# Altium footprint library PcbLib1.PcbLib: 16 footprints
Each footprint in its own frame and in the unit in brackets; x right, y up, seen from the top. Pads: shape width x height; smd on the part's side, far side on the other; paste and mask are expansions set on the pad; w line width, h text height; cw(c..) or ccw(c..) is an arc to the next point about the centre after c.
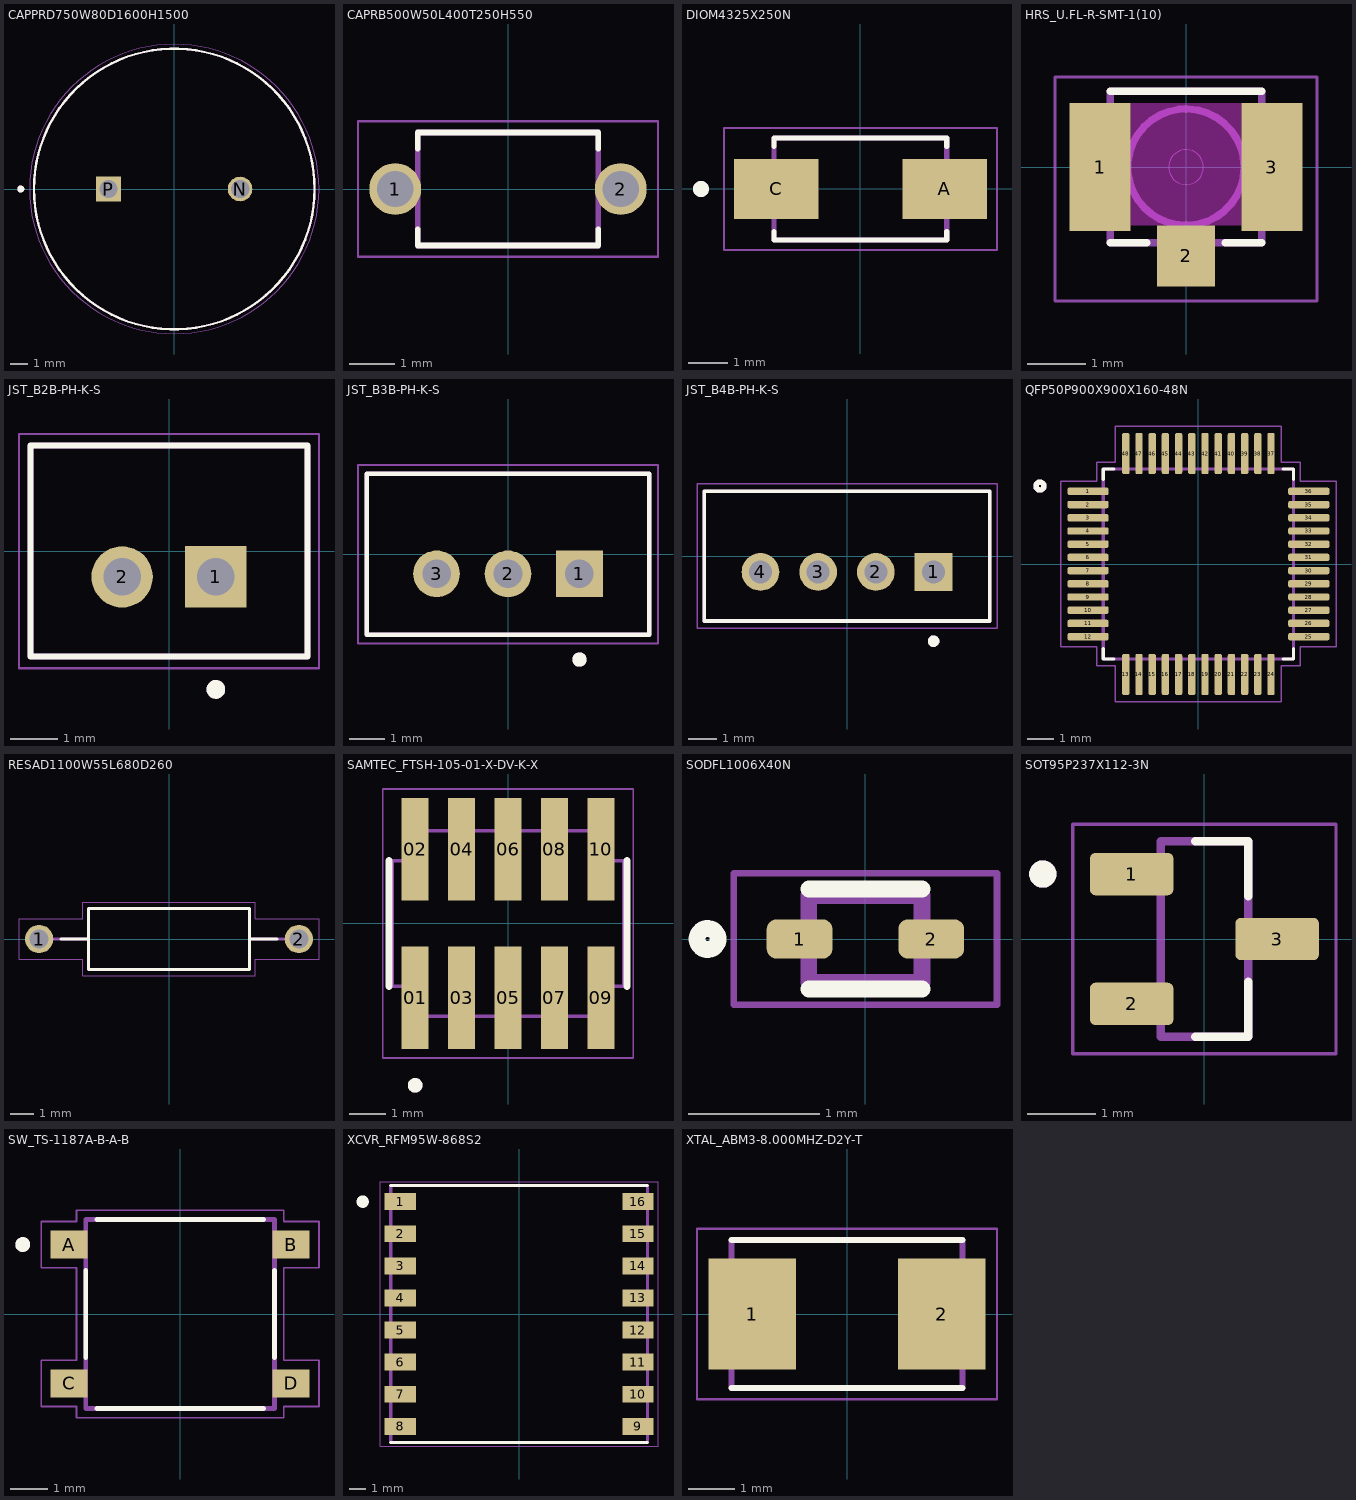
[diagram p0: the footprints below, top view; thin cyan lines are the x and y axes]

## CAPPRD750W80D1600H1500 [mm]
pads (2):
  round 1.4 hole 1.05: N(3.75,0)
  rect 1.4x1.4 hole 1.05: P(-3.75,0)
Top Overlay:
  circle w0.127: c0,0 r8
  circle w0.2: c-8.75,0 r0.1
Mechanical 13:
  circle w0.127: c0,0 r8
  circle w0.2: c-8.75,0 r0.1
Mechanical 15:
  circle w0.05: c0,0 r8.25
3D body "step_temp.STEP": height 15, standoff -17, extent -8,-7.997 8,7.997

## CAPRB500W50L400T250H550 [mm]
pads (2):
  round 1.15 hole 0.8 mask+0.102: 1(-2.5,0) 2(2.5,0)
Top Overlay:
  lines w0.127: -2,-0.895 -2,-1.25 2,-1.25 2,-0.895 ; -2,0.895 -2,1.25 2,1.25 2,0.895
Mechanical 13:
  lines w0.127: -2,-1.25 -2,1.25 2,1.25 2,-1.25 -2,-1.25
Mechanical 15:
  lines w0.05: -3.325,-1.5 -3.325,1.5 3.325,1.5 3.325,-1.5 -3.325,-1.5
3D body "step_temp.STEP": height 5.5, standoff -9, extent -2.75,-1.25 2.75,1.25

## DIOM4325X250N [mm]
height 2.5
pads (2):
  rect 2.12x1.5 smd paste+0 mask+0.102: A(2.115,0) C(-2.115,0)
Top Overlay:
  circle w0.2: c-4,0 r0.1
  lines w0.127: -2.165,-1.07 -2.165,-1.28 2.165,-1.28 2.165,-1.07 ; -2.165,1.07 -2.165,1.28 2.165,1.28 2.165,1.07
Mechanical 13:
  circle w0.2: c-4,0 r0.1
  lines w0.127: -2.165,-1.28 2.165,-1.28 2.165,1.28 -2.165,1.28 -2.165,-1.28
Mechanical 15:
  lines w0.05: -3.425,-1.53 3.425,-1.53 3.425,1.53 -3.425,1.53 -3.425,-1.53
3D body "step_temp.STEP": height 2.45, standoff -0.25, extent -0.275,-2.37 4.775,-0.2

## HRS_U.FL-R-SMT-1(10) [mm]
pads (3):
  rect 1.05x2.2 smd: 1(-1.475,0) 3(1.475,0)
  rect 1x1.05 smd: 2(0,-1.525)
Top Overlay:
  lines w0.127: -1.3,-1.3 -0.67,-1.3 ; -1.3,1.3 1.3,1.3 ; 0.67,-1.3 1.3,-1.3
Keep-Out Layer:
  region: 0.95,-1 -0.95,-1 -0.95,1.1 0.95,1.1
Mechanical 13:
  circle w0.127: c0,0 r1
  circle w0: c0,0 r0.3
  lines w0.127: -1.3,-1.3 1.3,-1.3 1.3,1.3 -1.3,1.3 -1.3,-1.3
Mechanical 15:
  lines w0.05: -2.25,-2.3 2.25,-2.3 2.25,1.55 -2.25,1.55 -2.25,-2.3

## JST_B2B-PH-K-S [mm]
pads (2):
  rect 1.308x1.308 / inner round 1.308 / far side rect 1.308x1.308 hole 0.8: 1(1,-0.55)
  round 1.308 hole 0.8: 2(-1,-0.55)
Top Overlay:
  circle w0.2: c1,-2.95 r0.1
  lines w0.127: -2.95,-2.25 2.95,-2.25 2.95,2.25 -2.95,2.25 -2.95,-2.25
Mechanical 13:
  circle w0.2: c1,-2.95 r0.1
  lines w0.127: -2.95,-2.25 -2.95,2.25 2.95,2.25 2.95,-2.25 -2.95,-2.25
Mechanical 15:
  lines w0.05: -3.2,-2.5 -3.2,2.5 3.2,2.5 3.2,-2.5 -3.2,-2.5
3D body "step_temp.STEP": height 6, standoff -3.4, extent -2.95,-2.25 2.95,2.25

## JST_B3B-PH-K-S [mm]
pads (3):
  rect 1.308x1.308 / inner round 1.308 / far side rect 1.308x1.308 hole 0.8: 1(2,-0.55)
  round 1.308 hole 0.8: 2(0,-0.55) 3(-2,-0.55)
Top Overlay:
  circle w0.2: c2,-2.95 r0.1
  lines w0.127: -3.95,-2.25 -3.95,2.25 3.95,2.25 3.95,-2.25 -3.95,-2.25
Mechanical 13:
  circle w0.2: c2,-2.95 r0.1
  lines w0.127: -3.95,-2.25 3.95,-2.25 3.95,2.25 -3.95,2.25 -3.95,-2.25
Mechanical 15:
  lines w0.05: -4.2,-2.5 4.2,-2.5 4.2,2.5 -4.2,2.5 -4.2,-2.5

## JST_B4B-PH-K-S [mm]
pads (4):
  rect 1.308x1.308 / inner round 1.308 / far side rect 1.308x1.308 hole 0.8: 1(3,-0.55)
  round 1.308 hole 0.8: 2(1,-0.55) 3(-1,-0.55) 4(-3,-0.55)
Top Overlay:
  circle w0.2: c3,-2.95 r0.1
  lines w0.127: -4.95,-2.25 4.95,-2.25 4.95,2.25 -4.95,2.25 -4.95,-2.25
Mechanical 13:
  circle w0.2: c3,-2.95 r0.1
  lines w0.127: -4.95,-2.25 -4.95,2.25 4.95,2.25 4.95,-2.25 -4.95,-2.25
Mechanical 15:
  lines w0.05: -5.2,-2.5 -5.2,2.5 5.2,2.5 5.2,-2.5 -5.2,-2.5

## PCBComponent_1 [mm]

## QFP50P900X900X160-48N [mm]
pads (48):
  rrect50% 1.56x0.28 smd: 1(-4.18,2.75) 2(-4.18,2.25) 3(-4.18,1.75) 4(-4.18,1.25) 5(-4.18,0.75) 6(-4.18,0.25) 7(-4.18,-0.25) 8(-4.18,-0.75) 9(-4.18,-1.25) 10(-4.18,-1.75) 11(-4.18,-2.25) 12(-4.18,-2.75) 25(4.18,-2.75) 26(4.18,-2.25) 27(4.18,-1.75) 28(4.18,-1.25) 29(4.18,-0.75) 30(4.18,-0.25) 31(4.18,0.25) 32(4.18,0.75) 33(4.18,1.25) 34(4.18,1.75) 35(4.18,2.25) 36(4.18,2.75)
  rrect50% 0.28x1.56 smd: 13(-2.75,-4.18) 14(-2.25,-4.18) 15(-1.75,-4.18) 16(-1.25,-4.18) 17(-0.75,-4.18) 18(-0.25,-4.18) 19(0.25,-4.18) 20(0.75,-4.18) 21(1.25,-4.18) 22(1.75,-4.18) 23(2.25,-4.18) 24(2.75,-4.18) 37(2.75,4.18) 38(2.25,4.18) 39(1.75,4.18) 40(1.25,4.18) 41(0.75,4.18) 42(0.25,4.18) 43(-0.25,4.18) 44(-0.75,4.18) 45(-1.25,4.18) 46(-1.75,4.18) 47(-2.25,4.18) 48(-2.75,4.18)
Top Overlay:
  circle w0.2: c-6,2.95 r0.15
  lines w0.127: -3.6,-3.21 -3.6,-3.6 -3.21,-3.6 ; -3.6,3.21 -3.6,3.6 -3.21,3.6 ; 3.21,-3.6 3.6,-3.6 3.6,-3.21 ; 3.21,3.6 3.6,3.6 3.6,3.21
Mechanical 13:
  circle w0.2: c-6,2.95 r0.15
  lines w0.127: -3.6,-3.6 3.6,-3.6 3.6,3.6 -3.6,3.6 -3.6,-3.6
Mechanical 15:
  lines w0.05: -5.21,-3.14 -3.85,-3.14 -3.85,-3.85 -3.14,-3.85 -3.14,-5.21 3.14,-5.21 3.14,-3.85 3.85,-3.85 3.85,-3.14 5.21,-3.14 5.21,3.14 3.85,3.14 3.85,3.85 3.14,3.85 3.14,5.21 -3.14,5.21 -3.14,3.85 -3.85,3.85 -3.85,3.14 -5.21,3.14 -5.21,-3.14
3D body "step_temp.STEP": height 1.6, standoff 0, extent -4.5,-4.5 4.5,4.5

## RESAD1100W55L680D260 [mm]
height 2.6
pads (2):
  round 1.2 hole 0.8: 1(-5.5,0) 2(5.5,0)
Top Overlay:
  lines w0.127: -4.58,0 -3.4,0 ; 4.58,0 3.4,0 ; -3.4,0 -3.4,-1.3 3.4,-1.3 3.4,0 ; -3.4,0 -3.4,1.3 3.4,1.3 3.4,0
Mechanical 13:
  lines w0.127: -4.9,0 -3.4,0 ; 4.9,0 3.4,0 ; -3.4,0 -3.4,-1.3 3.4,-1.3 3.4,0 ; -3.4,0 -3.4,1.3 3.4,1.3 3.4,0
Mechanical 15:
  lines w0.05: -6.35,-0.85 -6.35,0.85 -3.65,0.85 -3.65,1.55 3.65,1.55 3.65,0.85 6.35,0.85 6.35,-0.85 3.65,-0.85 3.65,-1.55 -3.65,-1.55 -3.65,-0.85 -6.35,-0.85
3D body "step_temp.STEP": height 2.4, standoff -26.95, extent -5.775,-1.2 5.775,1.2

## SAMTEC_FTSH-105-01-X-DV-K-X [mil]
pads (10):
  rect 29x110 smd paste+0 mask+4.02: 01(-100,-80) 02(-100,80) 03(-50,-80) 04(-50,80) 05(0,-80) 06(0,80) 07(50,-80) 08(50,80) 09(100,-80) 10(100,80)
Top Overlay:
  circle w7.87: c-100,-174.37 r3.94
  lines w7.87: -128.15,-67.5 -128.15,67.5 ; 128.15,-67.5 128.15,67.5
Mechanical 13:
  circle w7.87: c-100,-174.37 r3.94
  lines w3.94: -125,-67.5 -100,-67.5 -100,-100 100,-100 100,-67.5 125,-67.5 125,67.5 100,67.5 100,100 -100,100 -100,67.5 -125,67.5 -125,-67.5
Mechanical 15:
  lines w1.97: -134.84,-144.84 -134.84,144.84 134.84,144.84 134.84,-144.84 -134.84,-144.84

## SODFL1006X40N [mm]
pads (2):
  rrect50% 0.5x0.3 smd: 1(-0.5,0) 2(0.5,0)
Top Overlay:
  circle w0.127: c-1.2,0 r0.08
  lines w0.127: -0.43,-0.38 0.43,-0.38 ; -0.43,0.38 0.43,0.38
Mechanical 13:
  lines w0.127: -0.43,-0.33 0.43,-0.33 0.43,0.33 -0.43,0.33 -0.43,-0.33
Mechanical 15:
  lines w0.05: -1,-0.5 1,-0.5 1,0.5 -1,0.5 -1,-0.5

## SOT95P237X112-3N [mm]
height 1.12
pads (3):
  rrect25% 1.22x0.62 smd: 1(-1.065,0.95) 2(-1.065,-0.95) 3(1.065,0)
Top Overlay:
  circle w0.2: c-2.365,0.95 r0.1
  lines w0.127: -0.135,-1.43 0.64,-1.43 0.64,-0.63 ; -0.135,1.43 0.64,1.43 0.64,0.63
Mechanical 13:
  circle w0.2: c-2.365,0.95 r0.1
  lines w0.127: -0.64,-1.43 -0.64,1.43 0.64,1.43 0.64,-1.43 -0.64,-1.43
Mechanical 15:
  lines w0.05: -1.925,-1.68 1.925,-1.68 1.925,1.68 -1.925,1.68 -1.925,-1.68
3D body "step_temp.STEP": height 1.12, standoff 0, extent -1.185,-1.45 1.185,1.45

## SW_TS-1187A-B-A-B [mm]
pads (4):
  rect 1x0.75 smd: A(-3,1.875) B(3,1.875) C(-3,-1.875) D(3,-1.875)
Top Overlay:
  circle w0.2: c-4.25,1.875 r0.1
  lines w0.127: -2.55,-1.18 -2.55,1.18 ; -2.25,-2.55 2.25,-2.55 ; -2.25,2.55 2.25,2.55 ; 2.55,-1.18 2.55,1.18
Mechanical 13:
  circle w0.2: c-4.25,1.875 r0.1
  lines w0.127: -2.55,-2.55 -2.55,2.55 2.55,2.55 2.55,-2.55 -2.55,-2.55
Mechanical 15:
  lines w0.05: -3.75,-2.5 -3.75,-1.25 -2.8,-1.25 -2.8,1.25 -3.75,1.25 -3.75,2.5 -2.8,2.5 -2.8,2.8 2.8,2.8 2.8,2.5 3.75,2.5 3.75,1.25 2.8,1.25 2.8,-1.25 3.75,-1.25 3.75,-2.5 2.8,-2.5 2.8,-2.8 -2.8,-2.8 -2.8,-2.5 -3.75,-2.5

## XCVR_RFM95W-868S2 [mm]
pads (16):
  rect 1.95x1.05 smd: 1(-7.4,7) 2(-7.4,5) 3(-7.4,3) 4(-7.4,1) 5(-7.4,-1) 6(-7.4,-3) 7(-7.4,-5) 8(-7.4,-7) 9(7.4,-7) 10(7.4,-5) 11(7.4,-3) 12(7.4,-1) 13(7.4,1) 14(7.4,3) 15(7.4,5) 16(7.4,7)
Top Overlay:
  circle w0.2: c-9.75,7 r0.292
  region: -9.5,6.808 -10.011,6.808 -10.011,7.2 -9.5,7.2
  lines w0.2: -8,-8 8,-8 ; -8,8 8,8
Mechanical 13:
  lines w0.2: -8,-8 -8,8 ; 8,-8 8,8
Mechanical 15:
  lines w0.05: -8.65,-8.25 8.65,-8.25 8.65,8.25 -8.65,8.25 -8.65,-8.25
3D body "step_temp.STEP": height 1.8, standoff 0, extent -8,-8 8,8

## XTAL_ABM3-8.000MHZ-D2Y-T [mm]
height 1.3
pads (2):
  rect 1.9x2.4 smd: 1(-2.05,0) 2(2.05,0)
Top Overlay:
  lines w0.127: -2.5,-1.6 2.5,-1.6 ; -2.5,1.6 2.5,1.6
Mechanical 13:
  lines w0.127: -2.5,-1.6 2.5,-1.6 2.5,1.6 -2.5,1.6 -2.5,-1.6
Mechanical 15:
  lines w0.05: -3.25,-1.85 3.25,-1.85 3.25,1.85 -3.25,1.85 -3.25,-1.85
3D body "step_temp.STEP": height 1.3, standoff 0, extent -2.5,-1.6 2.5,1.6